# Altium schematic symbol library Schlib.SchLib: 2 symbols
Pins are listed as number, name and electrical type; pins without a type are passive.

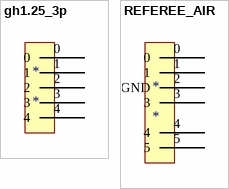
[diagram p0: symbols gh1.25_3p to REFEREE_AIR]

## gh1.25_3p
designator *
footprint GH1.25-LS-3P (A1257WR-S-3P)
pins: 0, 1, 2, 3, 4

## REFEREE_AIR
designator *
footprint M8 Connector
pins: 0, 1, 2 GND, 3, 4, 5